# Altium footprint library footprint_library.PcbLib: 32 footprints (part 2 of 2)
Each footprint in its own frame and in the unit in brackets; x right, y up, seen from the top. Pads: shape width x height; smd on the part's side, far side on the other; paste and mask are expansions set on the pad; w line width, h text height; cw(c..) or ccw(c..) is an arc to the next point about the centre after c.
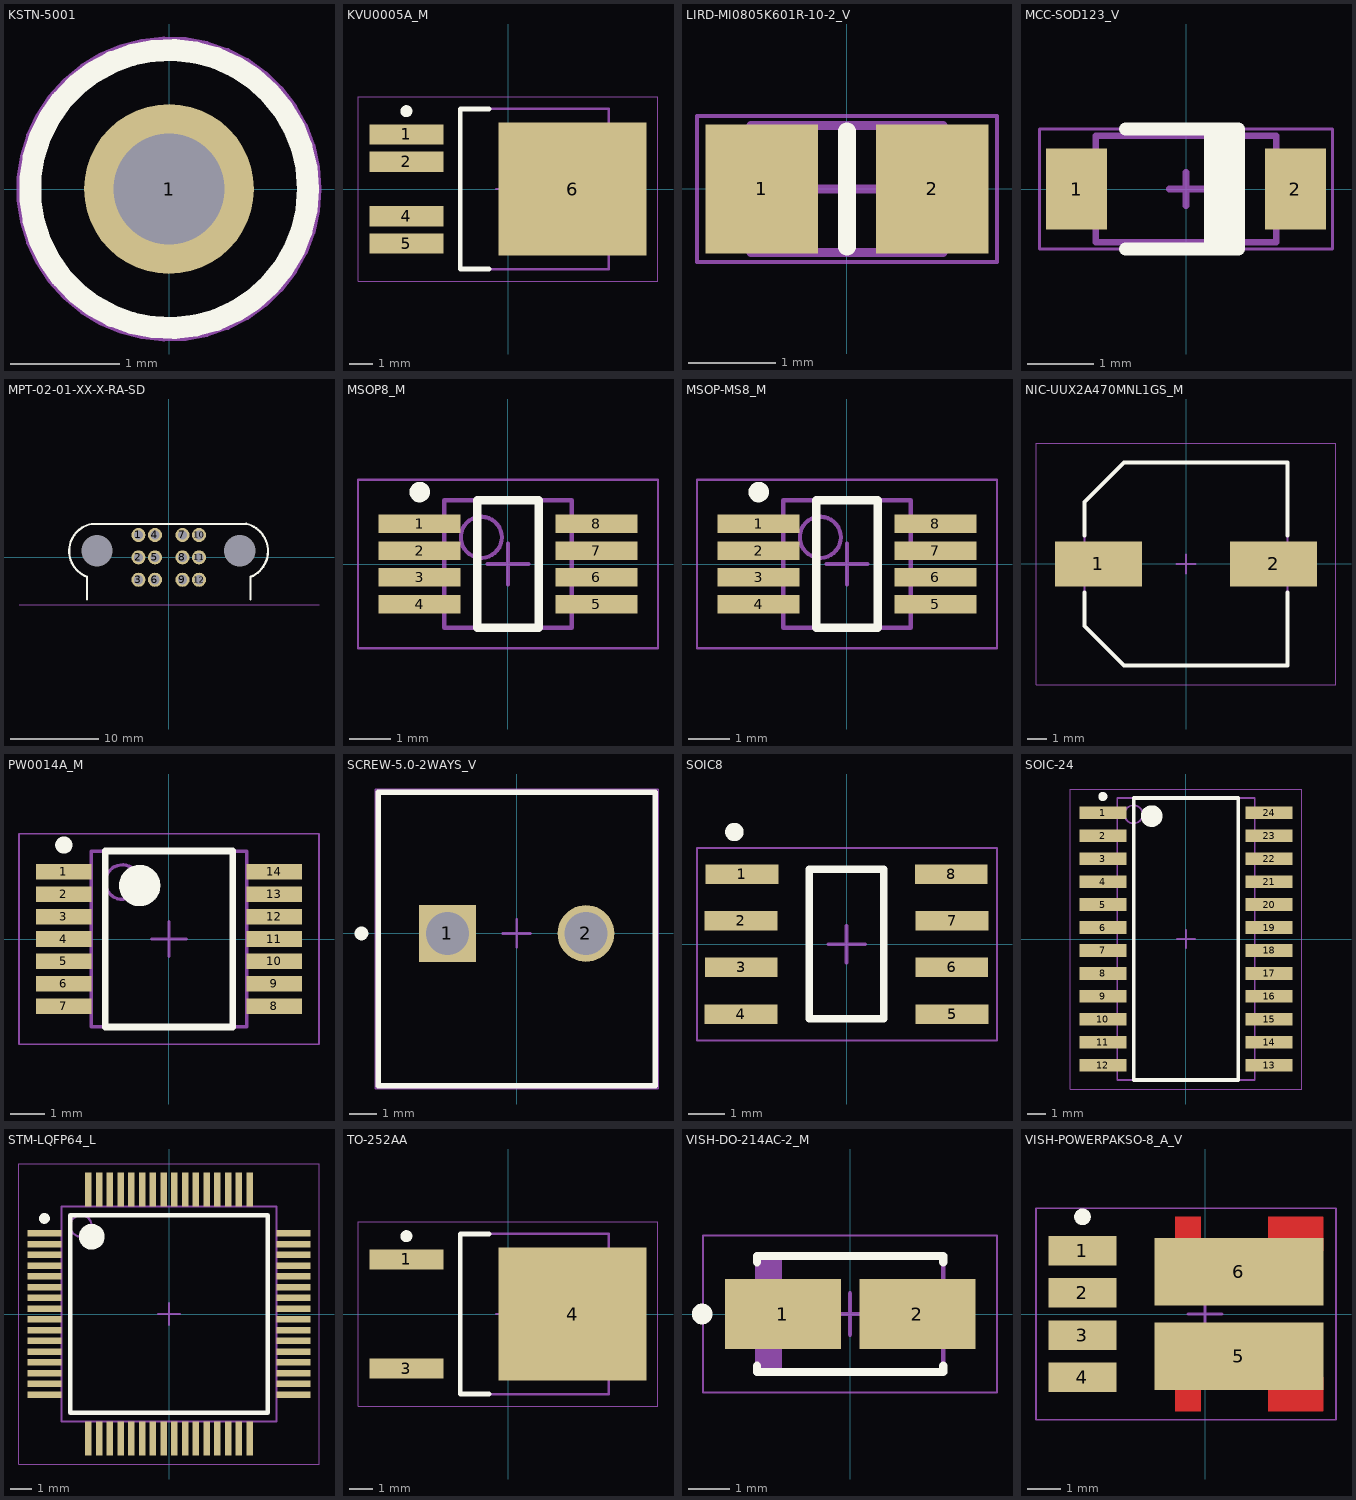
[diagram p1: the footprints below, top view; thin cyan lines are the x and y axes]

## KSTN-5001 [mm] "Test Point, Through Hole, Dia 2.54mm"
height 4.57
pads (1):
  round 1.55 hole 1.016: 1(0,0)
Top Overlay:
  circle w0.2: c0,0 r1.27
Mechanical 13:
  circle w0.1: c0,0 r1.27
Mechanical 15:
  circle w0.05: c0,0 r1.37
  lines w0.1: -0.5,0 0.5,0 -0.5,0 ; 0,-0.5 0,0.5 0,-0.5
3D body "Keystone_5001.stp": height 4.62, standoff -3, extent -1.245,-1.245 1.246,1.251

## KVU0005A_M [mm] "DPAK, 5-Leads, Body 6.22x6.7mm, Pitch 1.14mm, IPC Low Density"
height 2.39
pads (5):
  rect 3.1x0.85 smd mask+0.076: 1(-4.25,2.28) 2(-4.25,1.14) 4(-4.25,-1.14) 5(-4.25,-2.28)
  rect 6.2x5.55 smd mask+0.076: 6(2.7,0)
Top Overlay:
  circle w0.25: c-4.25,3.255 r0.125
  lines w0.2: -0.8,-3.35 -2,-3.35 -2,3.35 -0.8,3.35
Mechanical 13:
  lines w0.1: -2,-3.35 4.22,-3.35 4.22,3.35 -2,3.35 -2,-3.35
Mechanical 15:
  lines w0.05: -6.275,-3.85 6.275,-3.85 6.275,3.85 -6.275,3.85 -6.275,-3.85
  lines w0.1: -0.5,0 0.5,0 ; 0,-0.5 0,0.5
3D body "TO-252-5_TabPin6.stp": height 2.32, standoff 0, extent -4.772,-3.251 5.128,3.249

## LIRD-MI0805K601R-10-2_V [mm] "Chip Bead, 2-Leads, Body 2.2 x1.45 mm"
height 1.1
pads (2):
  rect 1.285x1.47 smd mask+0.076: 1(-0.972,0) 2(0.972,0)
Top Overlay:
  lines w0.203: 0,-0.66 0,0.66
Mechanical 13:
  lines w0.1: -1.1,-0.725 1.1,-0.725 1.1,0.725 -1.1,0.725 -1.1,-0.725
Mechanical 15:
  lines w0.05: -1.715,-0.835 1.715,-0.835 1.715,0.835 -1.715,0.835 -1.715,-0.835
  lines w0.1: -0.5,0 0.5,0 ; 0,-0.5 0,0.5
3D body "INDC2012X11L23.step": height 1.1, standoff 0, extent -1.1,-0.725 1.1,0.725

## MCC-SOD123_V [mil] "SOD123, 2-Leads, Body 2.7x1.6mm, Height 1.35mm"
height 53.15
pads (2):
  rect 35.98x47.99 smd mask+3: 1(-64.5,0) 2(64.5,0)
Top Overlay:
  rectangle: 10.75,-35.43 30.75,35.43
  lines w7.87: -35.67,-35.43 30.75,-35.43 30.75,35.43 -35.67,35.43
Mechanical 13:
  lines w3.94: -53.15,-31.5 -53.15,31.5 53.15,31.5 53.15,-31.5 -53.15,-31.5
Mechanical 15:
  lines w1.97: -86.42,-35.43 -86.42,35.43 86.42,35.43 86.42,-35.43 -86.42,-35.43
  lines w3.94: -9.84,0 9.84,0 ; 0,-9.84 0,9.84
3D body: height 53.15, standoff 0, extent -53.15,-31.5 53.15,31.5

## MPT-02-01-XX-X-RA-SD [mm]
pads (14):
  round 1.6 hole 1.04 mask+0.075: 1(-3.458,2.54) 2(-3.458,0) 3(-3.458,-2.54) 4(-1.578,2.54) 5(-1.578,0) 6(-1.578,-2.54) 7(1.542,2.54) 8(1.542,0) 9(1.542,-2.54) 10(3.423,2.54) 11(3.423,0) 12(3.423,-2.54)
  round 0 hole 3.56 unplated: 25(-8.157,0.76) 26(8.026,0.76)
Top Overlay:
  lines w0.254: -9.293,-4.763 -9.293,-2.223 ; -9.291,-2.21 cw(c-8.182,0.725) -8.792,3.803 ; -8.792,3.803 8.792,3.803 ; 8.792,3.805 cw(c8.086,0.719) 9.292,-2.209 ; 9.275,-4.793 9.275,-2.253
Mechanical 16:
  lines w0.01: -17.017,-5.39 -8.502,-5.382 ; 17.043,-5.359 8.528,-5.367 -8.502,-5.382 ; -8.502,-5.382 -8.502,-5.382
3D body "MPT-02-01-01-T-RA-SD.stp": height 10.93, standoff -2.59, extent -10.727,-11.486 10.633,3.324

## MSOP8_M [mm] "TSOP, 8-Leads, Body 3x3mm, Pitch 0.65mm, IPC Low Density"
height 1.1
pads (8):
  rect 2x0.45 smd mask+0.046: 1(-2.15,0.975) 2(-2.15,0.325) 3(-2.15,-0.325) 4(-2.15,-0.975) 5(2.15,-0.975) 6(2.15,-0.325) 7(2.15,0.325) 8(2.15,0.975)
Top Overlay:
  circle w0.25: c-2.15,1.75 r0.125
  lines w0.2: -0.75,-1.55 -0.75,1.55 0.75,1.55 0.75,-1.55 -0.75,-1.55
Mechanical 13:
  circle w0.1: c-0.65,0.65 r0.5
  lines w0.1: -1.55,-1.55 -1.55,1.55 1.55,1.55 1.55,-1.55 -1.55,-1.55
Mechanical 15:
  lines w0.05: -3.65,-2.05 -3.65,2.05 3.65,2.05 3.65,-2.05 -3.65,-2.05
  lines w0.1: -0.5,0 0.5,0 ; 0,-0.5 0,0.5
3D body: height 1.1, standoff 0, extent -1.55,-1.55 1.55,1.55

## MSOP-MS8_M [mm] "TSOP, 8-Leads, Body 3x3mm, Pitch 0.65mm, IPC Low Density"
height 1.1
pads (8):
  rect 2x0.45 smd mask+0.046: 1(-2.15,0.975) 2(-2.15,0.325) 3(-2.15,-0.325) 4(-2.15,-0.975) 5(2.15,-0.975) 6(2.15,-0.325) 7(2.15,0.325) 8(2.15,0.975)
Top Overlay:
  circle w0.25: c-2.15,1.75 r0.125
  lines w0.2: -0.75,-1.55 0.75,-1.55 0.75,1.55 -0.75,1.55 -0.75,-1.55
Mechanical 13:
  circle w0.1: c-0.65,0.65 r0.5
  lines w0.1: -1.55,-1.55 1.55,-1.55 1.55,1.55 -1.55,1.55 -1.55,-1.55
Mechanical 15:
  lines w0.05: -3.65,-2.05 3.65,-2.05 3.65,2.05 -3.65,2.05 -3.65,-2.05
  lines w0.1: -0.5,0 0.5,0 ; 0,-0.5 0,0.5
3D body: height 1.1, standoff 0, extent -1.55,-1.55 1.55,1.55

## NIC-UUX2A470MNL1GS_M [mm] "Aluminum Electrolytic Capacitor, Body 10.5x10.5mm, IPC Low Density"
height 10.8
pads (2):
  rect 4.5x2.35 smd mask+0.076: 1(-4.525,0) 2(4.525,0)
Top Overlay:
  lines w0.2: -5.25,-1.475 -5.25,-3.213 -3.213,-5.25 5.25,-5.25 5.25,-1.475 ; -5.25,1.475 -5.25,3.212 -3.213,5.25 5.25,5.25 5.25,1.475
Mechanical 13:
  lines w0.1: -5.25,-3.213 -3.213,-5.25 5.25,-5.25 5.25,5.25 -3.213,5.25 -5.25,3.212 -5.25,-3.213
Mechanical 15:
  lines w0.05: -7.75,-6.25 -7.75,6.25 7.75,6.25 7.75,-6.25 -7.75,-6.25
  lines w0.1: -0.5,0 0.5,0 ; 0,-0.5 0,0.5
3D body "CAPAE113103X108M.step": height 10.8, standoff 0, extent -5.65,-5.25 5.65,5.25

## PW0014A_M [mm] "SOP, 14-Leads, Body 5.1x4.5mm, Pitch 0.65mm, IPC Low Density"
height 1.2
pads (14):
  rect 1.6x0.45 smd mask+0.046: 1(-3.05,1.95) 2(-3.05,1.3) 3(-3.05,0.65) 4(-3.05,0) 5(-3.05,-0.65) 6(-3.05,-1.3) 7(-3.05,-1.95) 8(3.05,-1.95) 9(3.05,-1.3) 10(3.05,-0.65) 11(3.05,0) 12(3.05,0.65) 13(3.05,1.3) 14(3.05,1.95)
Top Overlay:
  circle w0.25: c-3.05,2.725 r0.125
  circle w0.6: c-0.85,1.55 r0.3
  lines w0.2: -1.85,-2.55 -1.85,2.55 1.85,2.55 1.85,-2.55 -1.85,-2.55
Mechanical 13:
  circle w0.1: c-1.35,1.65 r0.5
  lines w0.1: -2.25,-2.55 -2.25,2.55 2.25,2.55 2.25,-2.55 -2.25,-2.55
Mechanical 15:
  lines w0.05: -4.35,-3.05 -4.35,3.05 4.35,3.05 4.35,-3.05 -4.35,-3.05
  lines w0.1: -0.5,0 0.5,0 ; 0,-0.5 0,0.5
3D body "PW0014AakaMTC14.stp": height 1, standoff 0, extent -3.21,-2.5 3.21,2.5

## SCREW-5.0-2WAYS_V [mm] "Socket, Screw Terminal Block, 2-Leads, Pitch 5mm, 90 Degree Angle, Through-Hole"
height 18.2
pads (2):
  rect 2.05x2.05 hole 1.55: 1(-2.5,0)
  round 2.05 hole 1.55: 2(2.5,0)
Top Overlay:
  circle w0.25: c-5.6,0 r0.125
  lines w0.2: -5,-5.5 -5,5.1 5,5.1 5,-5.5 -5,-5.5
Mechanical 13:
  lines w0.1: -5,-5.5 5,-5.5 5,5.1 -5,5.1 -5,-5.5
Mechanical 15:
  lines w0.05: -5.1,-5.6 -5.1,5.2 5.1,5.2 5.1,-5.6 -5.1,-5.6
  lines w0.1: -0.5,0 0.5,0 ; 0,-0.5 0,0.5
3D body: height 17.7, standoff 17.2, extent 0.754,0.246 2.254,1.746
3D body: height 17.7, standoff 17.2, extent 2.746,0.246 4.246,1.746
3D body: height 17.7, standoff 17.2, extent 0.754,-1.746 2.254,-0.246
3D body: height 17.7, standoff 17.2, extent 2.746,-1.746 4.246,-0.246
3D body: height 17.7, standoff 17.2, extent -4.246,0.246 -2.746,1.746
3D body: height 17.7, standoff 17.2, extent -2.254,0.246 -0.754,1.746
3D body: height 17.7, standoff 17.2, extent -4.246,-1.746 -2.746,-0.246
3D body: height 17.7, standoff 17.2, extent -2.254,-1.746 -0.754,-0.246
3D body: height 18.2, standoff 17.2, extent -4.981,0.001 5.018,2.5
3D body: height 18.2, standoff 17.2, extent -5,-2.5 4.999,-0.001
3D body: height 18.2, standoff 12, extent -5,-5.5 5,3.05
3D body: height 0.01, standoff -5.07, extent 2,-0.4 3,0.4
3D body: height 0.01, standoff -5.07, extent -3,-0.4 -2,0.4
3D body: height 12, standoff 9, extent -5,-5.5 5,3.05
3D body "2.step": height 9.01, standoff 0.01, extent -5,-5.5 4.999,5.1

## SOIC8 [mm] "Based on MAX31855"
height 1.1
pads (8):
  rect 1.98x0.53 smd mask+0.046: 1(-2.845,1.905) 2(-2.87,0.635) 3(-2.861,-0.625) 4(-2.87,-1.905) 5(2.87,-1.905) 6(2.861,-0.625) 7(2.87,0.635) 8(2.845,1.905)
Top Overlay:
  circle w0.25: c-3.048,3.048 r0.125
  lines w0.2: -1.016,-2.032 -1.016,2.032 1.016,2.032 1.016,-2.032 -1.016,-2.032
Mechanical 15:
  lines w0.05: -4.064,-2.616 -4.064,2.616 4.089,2.616 4.089,-2.616 -4.064,-2.616
  lines w0.1: -0.5,0 0.5,0 ; 0,-0.5 0,0.5
3D body "D0008B.stp": height 1.63, standoff 0, extent -3.011,-2.451 3.012,2.451

## SOIC-24 [mm] "SOIC, 24-Leads, Body 15.4x7.5mm, Pitch 1.27mm, IPC Low Density"
height 2.65
pads (24):
  rect 2.6x0.7 smd mask+0.076: 1(-4.6,6.985) 2(-4.6,5.715) 3(-4.6,4.445) 4(-4.6,3.175) 5(-4.6,1.905) 6(-4.6,0.635) 7(-4.6,-0.635) 8(-4.6,-1.905) 9(-4.6,-3.175) 10(-4.6,-4.445) 11(-4.6,-5.715) 12(-4.6,-6.985) 13(4.6,-6.985) 14(4.6,-5.715) 15(4.6,-4.445) 16(4.6,-3.175) 17(4.6,-1.905) 18(4.6,-0.635) 19(4.6,0.635) 20(4.6,1.905) 21(4.6,3.175) 22(4.6,4.445) 23(4.6,5.715) 24(4.6,6.985)
Top Overlay:
  circle w0.25: c-4.6,7.885 r0.125
  circle w0.6: c-1.9,6.8 r0.3
  lines w0.2: -2.9,-7.8 -2.9,7.8 2.9,7.8 2.9,-7.8 -2.9,-7.8
Mechanical 13:
  circle w0.1: c-2.9,6.9 r0.5
  lines w0.1: -3.8,-7.8 -3.8,7.8 3.8,7.8 3.8,-7.8 -3.8,-7.8
Mechanical 15:
  lines w0.05: -6.4,-8.3 -6.4,8.3 6.4,8.3 6.4,-8.3 -6.4,-8.3
  lines w0.1: -0.5,0 0.5,0 ; 0,-0.5 0,0.5
3D body "R_24.stp": height 1.7, standoff 0, extent -5.258,-7.722 5.258,7.722

## STM-LQFP64_L [mm] "QFP, 64-Leads, Body 10x10mm, Pitch 0.5mm, IPC High Density"
height 1.6
pads (64):
  rect 1.6x0.3 smd mask+0.038: 1(-5.8,3.75) 2(-5.8,3.25) 3(-5.8,2.75) 4(-5.8,2.25) 5(-5.8,1.75) 6(-5.8,1.25) 7(-5.8,0.75) 8(-5.8,0.25) 9(-5.8,-0.25) 10(-5.8,-0.75) 11(-5.8,-1.25) 12(-5.8,-1.75) 13(-5.8,-2.25) 14(-5.8,-2.75) 15(-5.8,-3.25) 16(-5.8,-3.75) 33(5.8,-3.75) 34(5.8,-3.25) 35(5.8,-2.75) 36(5.8,-2.25) 37(5.8,-1.75) 38(5.8,-1.25) 39(5.8,-0.75) 40(5.8,-0.25) 41(5.8,0.25) 42(5.8,0.75) 43(5.8,1.25) 44(5.8,1.75) 45(5.8,2.25) 46(5.8,2.75) 47(5.8,3.25) 48(5.8,3.75)
  rect 0.3x1.6 smd mask+0.038: 17(-3.75,-5.8) 18(-3.25,-5.8) 19(-2.75,-5.8) 20(-2.25,-5.8) 21(-1.75,-5.8) 22(-1.25,-5.8) 23(-0.75,-5.8) 24(-0.25,-5.8) 25(0.25,-5.8) 26(0.75,-5.8) 27(1.25,-5.8) 28(1.75,-5.8) 29(2.25,-5.8) 30(2.75,-5.8) 31(3.25,-5.8) 32(3.75,-5.8) 49(3.75,5.8) 50(3.25,5.8) 51(2.75,5.8) 52(2.25,5.8) 53(1.75,5.8) 54(1.25,5.8) 55(0.75,5.8) 56(0.25,5.8) 57(-0.25,5.8) 58(-0.75,5.8) 59(-1.25,5.8) 60(-1.75,5.8) 61(-2.25,5.8) 62(-2.75,5.8) 63(-3.25,5.8) 64(-3.75,5.8)
Top Overlay:
  circle w0.25: c-5.8,4.45 r0.125
  circle w0.6: c-3.6,3.6 r0.3
  lines w0.2: -4.6,-4.6 -4.6,4.6 4.6,4.6 4.6,-4.6 -4.6,-4.6
Mechanical 13:
  circle w0.1: c-4.1,4.1 r0.5
  lines w0.1: -5,-5 -5,5 5,5 5,-5 -5,-5
Mechanical 15:
  lines w0.05: -6.985,-6.985 -6.985,6.985 6.985,6.985 6.985,-6.985 -6.985,-6.985
  lines w0.1: -0.5,0 0.5,0 ; 0,-0.5 0,0.5
3D body "LQFP64-10x10mm.stp": height 1.6, standoff 0, extent -5.997,-5.997 5.997,5.997

## TO-252AA [mm] "TO-252AA based on IRLR2908"
height 2.39
pads (3):
  rect 3.1x0.85 smd mask+0.076: 1(-4.25,2.28) 3(-4.25,-2.28)
  rect 6.2x5.55 smd mask+0.076: 4(2.7,0)
Top Overlay:
  circle w0.25: c-4.25,3.255 r0.125
  lines w0.2: -0.8,-3.35 -2,-3.35 -2,3.35 -0.8,3.35
Mechanical 13:
  lines w0.1: -2,-3.35 4.22,-3.35 4.22,3.35 -2,3.35 -2,-3.35
Mechanical 15:
  lines w0.05: -6.275,-3.85 6.275,-3.85 6.275,3.85 -6.275,3.85 -6.275,-3.85
  lines w0.1: -0.5,0 0.5,0 ; 0,-0.5 0,0.5
3D body "TO-252-2.stp": height 2.32, standoff 0, extent -4.772,-3.251 5.128,3.249

## VISH-DO-214AC-2_M [mm] "DO-214AC, 2-Leads, Body 4.5x2.79mm, IPC Low Density"
height 2.29
pads (2):
  rect 2.8x1.7 smd mask+0.076: 1(-1.625,0) 2(1.625,0)
Top Overlay:
  circle w0.25: c-3.575,0 r0.125
  lines w0.2: -2.25,-1.25 -2.25,-1.4 2.25,-1.4 2.25,-1.25 ; -2.25,1.25 -2.25,1.4 2.25,1.4 2.25,1.25
Mechanical 13:
  rectangle: -2.25,-1.395 -1.645,1.395
  lines w0.1: -2.25,-1.395 2.25,-1.395 2.25,1.395 -2.25,1.395 -2.25,-1.395
Mechanical 15:
  lines w0.05: -3.55,-1.9 3.55,-1.9 3.55,1.9 -3.55,1.9 -3.55,-1.9
  lines w0.1: -0.5,0 0.5,0 ; 0,-0.5 0,0.5
3D body: height 2.29, standoff 0, extent -2.25,-1.395 2.25,1.395

## VISH-POWERPAKSO-8_A_V [mil] "SMD, 8-Leads, Body 6.15x5.155mm, Pitch 1.27mm"
height 44.09
pads (6):
  rect 80x35 smd mask+3: 1(-145,75) 2(-145,25) 3(-145,-25) 4(-145,-75)
  rect 200x80 smd mask+3: 5(40,-50) 6(40,50)
Top Layer:
  region: 75,-115 140,-115 140,-75 75,-75
  region: 75,75 140,75 140,115 75,115
  region: -35,75 -5,75 -5,115 -35,115
  region: -35,-115 -5,-115 -5,-77.5 -35,-77.5
Top Overlay:
  circle w9.84: c-145,115 r4.92
Mechanical 15:
  lines w1.97: -200,-125 155,-125 155,125 -200,125 -200,-125
  lines w3.94: -19.68,0 19.68,0 ; 0,-19.68 0,19.68
3D body "PowerPAK SO-8L DUAL.stp": height 46.06, standoff 0, extent -141.21,-100 101.22,100.93